# Altium schematic symbol library 1705469.SchLib: 1 symbol
Pins are listed as number, name and electrical type; pins without a type are passive.

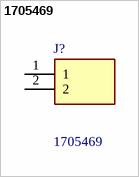
[diagram p0: symbol 1705469]

## 1705469
designator J?
Fixed Terminal Blocks 2P 5.08mm 40DEG; Manufacturer_Name: Phoenix Contact; Geometry.Height: 19.6mm; Manufacturer_Part_Number: 1705469; Mouser Part Number: 651-1705469; Mouser Price/Stock: https://www.mouser.co.uk/ProductDetail/Phoenix-Contact/1705469?qs=qgZcrvoyHAeKr1p0qncEog%3D%3D; Arrow Part Number: 1705469; Arrow Price/Stock: https://www.arrow.com/en/products/1705469/phoenix-contact?utm_currency=USD&region=nac; Datasheet Link: https://www.phoenixcontact.com/en-us/products/printed-circuit-board-terminal-smkds-25-2-508-1705469?type=pdf
footprint 1705469
pins: 1, 2